# Altium footprint library SOT65P222X110-3N.PcbLib: 1 footprints
Each footprint in its own frame and in the unit in brackets; x right, y up, seen from the top. Pads: shape width x height; smd on the part's side, far side on the other; paste and mask are expansions set on the pad; w line width, h text height; cw(c..) or ccw(c..) is an arc to the next point about the centre after c.
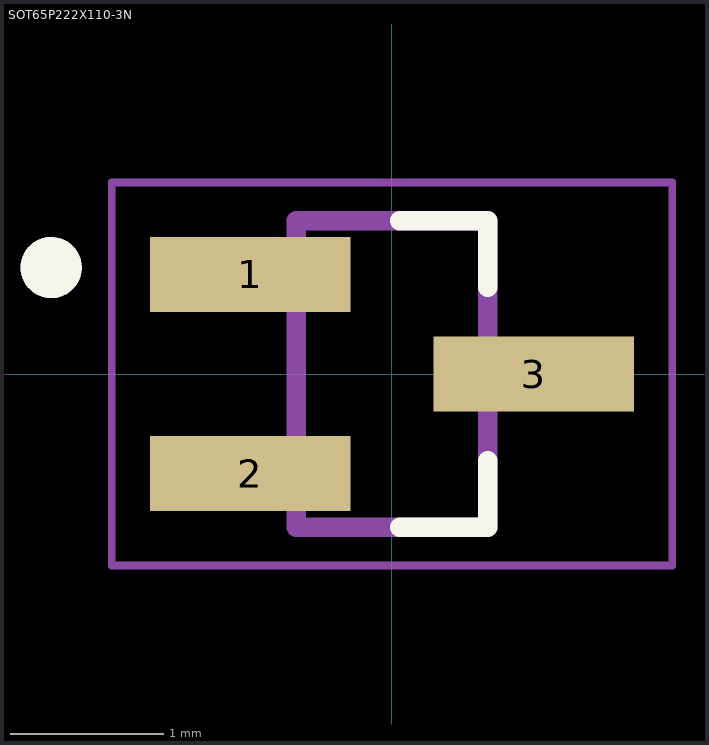
[diagram p0: the footprint, top view; thin cyan lines are the x and y axes]

## SOT65P222X110-3N [mm]
height 1.1
pads (3):
  rect 1.31x0.49 smd: 1(-0.925,0.65) 2(-0.925,-0.65) 3(0.925,0)
Top Overlay:
  circle w0.2: c-2.225,0.695 r0.1
  lines w0.127: 0.05,-1 0.625,-1 0.625,-0.565 ; 0.05,1 0.625,1 0.625,0.565
Mechanical 13:
  circle w0.2: c-2.225,0.695 r0.1
  lines w0.127: -0.625,-1 -0.625,1 0.625,1 0.625,-1 -0.625,-1
Mechanical 15:
  lines w0.05: -1.83,-1.25 -1.83,1.25 1.83,1.25 1.83,-1.25 -1.83,-1.25
3D body "step_temp.STEP": height 1.1, standoff 0, extent -1.05,-1.075 1.05,1.075